# Altium footprint library lib.PcbLib: 40 footprints (part 3 of 3)
Each footprint in its own frame and in the unit in brackets; x right, y up, seen from the top. Pads: shape width x height; smd on the part's side, far side on the other; paste and mask are expansions set on the pad; w line width, h text height; cw(c..) or ccw(c..) is an arc to the next point about the centre after c.
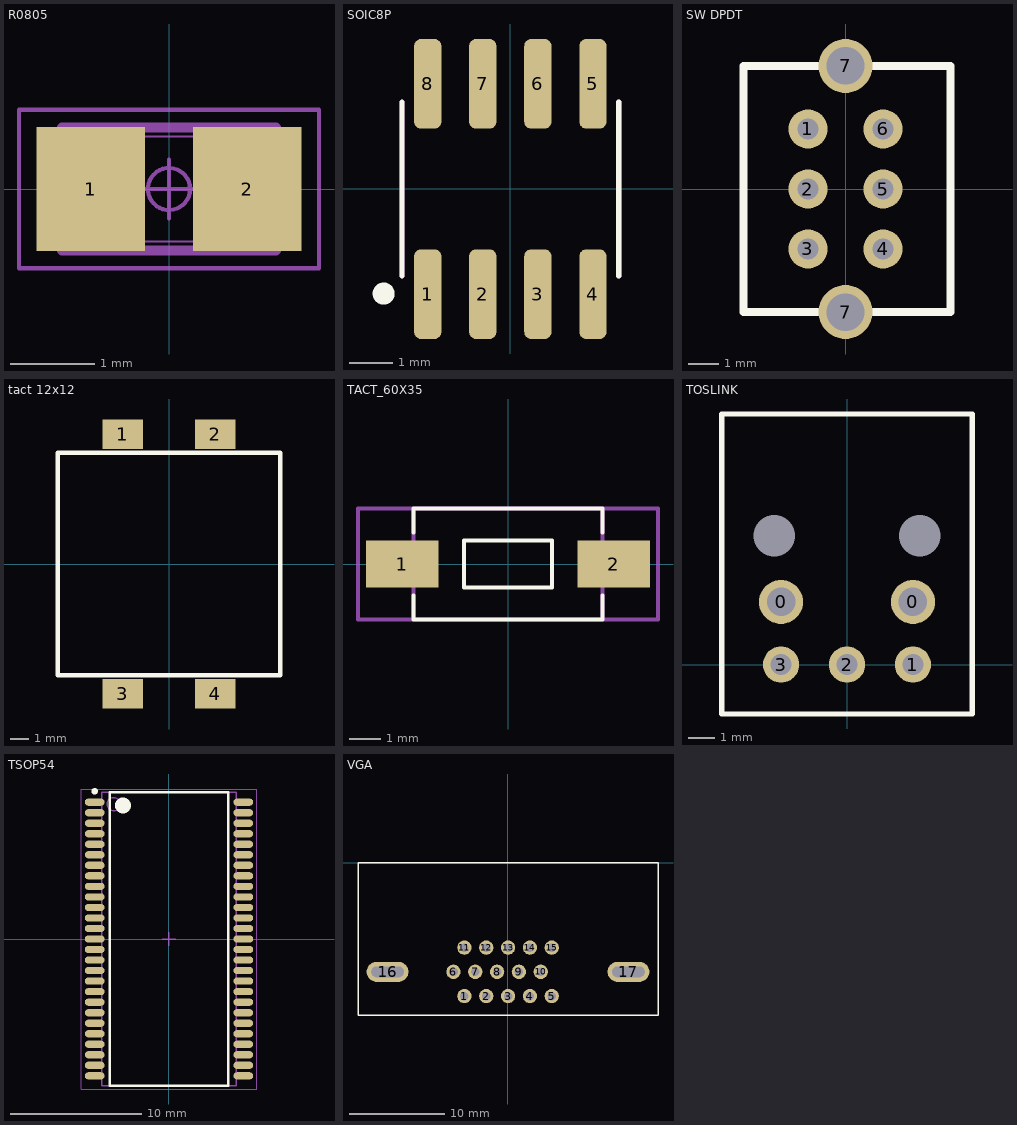
[diagram p2: the footprints below, top view; thin cyan lines are the x and y axes]

## R0805 [mm] "Resistor, Chip; 2.32 mm L X 1.25 mm W X 1.00 mm H body"
height 1
pads (2):
  rect 1.29x1.47 smd: 1(-0.93,0) 2(0.93,0)
Mechanical 11:
  lines w0.12: -1.27,-0.73 -1.27,0.73 1.27,0.73 1.27,-0.73 -1.27,-0.73
Mechanical 12:
  lines w0.025: -1.16,-0.625 -0.41,-0.625 -0.41,0.625 -1.16,0.625 ; -1.16,-0.625 -1.16,0.625 ; -1.16,-0.625 -1.16,0.625 ; -1.16,-0.625 1.16,-0.625 ; -1.16,0.625 1.16,0.625 ; 1.16,-0.625 1.16,0.625 ; 1.16,-0.625 0.41,-0.625 0.41,0.625 1.16,0.625 ; 1.16,-0.625 1.16,0.625
Mechanical 15:
  circle w0.05: c0,0 r0.25
  lines w0.05: -0.35,0 0.35,0 ; 0,-0.35 0,0.35 ; -1.78,-0.94 -1.78,0.94 1.78,0.94 1.78,-0.94 -1.78,-0.94
3D body "R0805.stp": height 0.42, standoff -0.03, extent -1.026,-0.625 0.974,0.625

## SOIC8P [mm] "Small Outline IC (SOIC), 1.27 mm pitch; 8 pin, 4.90 mm L X 3.90 mm W X 1.75 mm H body"
height 1.75
pads (8):
  rrect51% 0.63x2.07 smd: 1(-1.905,-2.425) 2(-0.635,-2.425) 3(0.635,-2.425) 4(1.905,-2.425) 5(1.905,2.425) 6(0.635,2.425) 7(-0.635,2.425) 8(-1.905,2.425)
Top Overlay:
  circle w0.254: c-2.921,-2.413 r0.127
  lines w0.12: -2.5,-2 -2.5,2 ; 2.5,-2 2.5,2
Mechanical 11:
  lines w0.12: -2.5,-2 -2.5,2 ; 2.5,-2 2.5,2
Mechanical 12:
  lines w0.025: -2.45,-1.95 -2.45,1.95 ; 2.45,-1.95 2.45,1.95 ; -2.095,-3 -2.095,-2.165 -1.715,-2.165 -1.715,-3 -2.095,-3 ; -2.095,2.165 -2.095,3 -1.715,3 -1.715,2.165 -2.095,2.165 ; -0.825,-3 -0.825,-2.165 -0.445,-2.165 -0.445,-3 -0.825,-3 ; -0.825,2.165 -0.825,3 -0.445,3 -0.445,2.165 -0.825,2.165 ; 0.445,-3 0.445,-2.165 0.825,-2.165 0.825,-3 0.445,-3 ; 0.445,2.165 0.445,3 0.825,3 0.825,2.165 0.445,2.165 ; 1.715,-3 1.715,-2.165 2.095,-2.165 2.095,-3 1.715,-3 ; 1.715,2.165 1.715,3 2.095,3 2.095,2.165 1.715,2.165
3D body "SOIC8P.STEP": height 1.75, standoff 0, extent -2.45,-3 2.45,3

## SW DPDT [mm]
pads (8):
  round 1.3 hole 0.7: 1(-1.25,2) 2(-1.25,0) 3(-1.25,-2) 4(1.25,-2) 5(1.25,0) 6(1.25,2)
  round 1.8 hole 1.25: 7(0,-4.1) 7(0,4.1)
Top Overlay:
  lines w0.254: -3.4,-4.1 -3.4,4.1 3.5,4.1 3.5,-4.1 -3.4,-4.1
3D body "dpdt.stp": height 4.7, standoff -2.6, extent -7.2,-4.25 3.4,4.25

## tact 12x12 [mm]
pads (4):
  rect 2.2x1.6 smd: 1(-2.5,7) 2(2.5,7) 3(-2.5,-7) 4(2.5,-7)
Top Overlay:
  lines w0.254: -6,-6 6,-6 6,6 -6,6 -6,-6
3D body "tact_1212b.stp": height 5.3, standoff 0, extent -6,-7.5 6,7.5

## TACT_60X35 [mm] "6.0*3.5mm vertical type, SMD, height 5.0mm, white actuator, 260gf, T&R"
height 5
pads (2):
  rect 2.3x1.5 smd: 1(-3.35,0) 2(3.35,0)
Top Overlay:
  lines w0.127: -3,-1 -3,-1.75 ; 3,1 3,1.75 ; -3,-1.75 -3,-1.75 ; -3,-1.75 3,-1.75 3,-1 ; -3,1 -3,1 ; -3,1 -3,1.75 3,1.75 ; 3,-1 3,-1 ; 3,1.75 3,1.75 ; -1.4,-0.75 1.4,-0.75 1.4,0.75 -1.4,0.75 -1.4,-0.75
Mechanical 13:
  lines w0.127: -3,-1.75 -3,1.75 3,1.75 3,-1.75 -3,-1.75
Mechanical 15:
  lines w0.127: -4.75,-1.75 4.75,-1.75 4.75,1.75 -4.75,1.75 -4.75,-1.75
3D body "tact_60x35.stp": height 5, standoff 0, extent -3.8,-1.75 3.8,1.75

## TOSLINK [mm]
pads (7):
  round 1.7 hole 1.1: 0(-2.54,2.413) 0(2.54,2.413)
  round 1.4 hole 0.8: 1(2.54,0) 2(0,0) 3(-2.54,0)
  round 1 hole 1.6 unplated: ""(-2.794,4.953) ""(2.794,4.953)
Top Overlay:
  lines w0.2: -4.826,-1.905 4.826,-1.905 4.826,9.652 -4.826,9.652 -4.826,-1.905
3D body "User Library-TORX147PL(f,t).step": height 10.05, standoff -3.55, extent -4.8,-2.45 4.9,11.05

## TSOP54 [mm] "SOP, 54-Leads, Body 22.3x10.2mm, Pitch 0.8mm, IPC Medium Density"
height 1.2
pads (54):
  oval 1.5x0.55 smd: 1(-5.65,10.4) 2(-5.65,9.6) 3(-5.65,8.8) 4(-5.65,8) 5(-5.65,7.2) 6(-5.65,6.4) 7(-5.65,5.6) 8(-5.65,4.8) 9(-5.65,4) 10(-5.65,3.2) 11(-5.65,2.4) 12(-5.65,1.6) 13(-5.65,0.8) 14(-5.65,0) 15(-5.65,-0.8) 16(-5.65,-1.6) 17(-5.65,-2.4) 18(-5.65,-3.2) 19(-5.65,-4) 20(-5.65,-4.8) 21(-5.65,-5.6) 22(-5.65,-6.4) 23(-5.65,-7.2) 24(-5.65,-8) 25(-5.65,-8.8) 26(-5.65,-9.6) 27(-5.65,-10.4) 28(5.65,-10.4) 29(5.65,-9.6) 30(5.65,-8.8) 31(5.65,-8) 32(5.65,-7.2) 33(5.65,-6.4) 34(5.65,-5.6) 35(5.65,-4.8) 36(5.65,-4) 37(5.65,-3.2) 38(5.65,-2.4) 39(5.65,-1.6) 40(5.65,-0.8) 41(5.65,0) 42(5.65,0.8) 43(5.65,1.6) 44(5.65,2.4) 45(5.65,3.2) 46(5.65,4) 47(5.65,4.8) 48(5.65,5.6) 49(5.65,6.4) 50(5.65,7.2) 51(5.65,8) 52(5.65,8.8) 53(5.65,9.6) 54(5.65,10.4)
Top Overlay:
  circle w0.6: c-3.5,10.15 r0.3
  circle w0.25: c-5.65,11.225 r0.125
  lines w0.2: -4.5,-11.15 4.5,-11.15 4.5,11.15 -4.5,11.15 -4.5,-11.15
Mechanical 13:
  circle w0.1: c-4.2,10.25 r0.5
  lines w0.1: -5.1,-11.15 5.1,-11.15 5.1,11.15 -5.1,11.15 -5.1,-11.15
Mechanical 15:
  lines w0.05: -6.65,-11.4 6.65,-11.4 6.65,11.4 -6.65,11.4 -6.65,-11.4
  lines w0.1: -0.5,0 0.5,0 ; 0,-0.5 0,0.5
3D body "TSOP54.stp": height 1, standoff -0.1, extent -5.88,-11.25 5.88,11.267

## VGA [mm]
pads (17):
  round 1.5 hole 0.9: 1(-4.545,-13.97) 2(-2.255,-13.97) 3(0.035,-13.97) 4(2.325,-13.97) 5(4.615,-13.97) 6(-5.688,-11.43) 7(-3.402,-11.43) 8(-1.116,-11.43) 9(1.17,-11.43) 10(3.456,-11.43) 11(-4.545,-8.89) 12(-2.255,-8.89) 13(0.035,-8.89) 14(2.325,-8.89) 15(4.615,-8.89)
  oval 4.4x2.1 hole 1.1 slot 3.4 at 0 deg: 16(-12.597,-11.43) 17(12.651,-11.43)
Top Overlay:
  lines w0.152: -8.38,0 8.434,0 ; -15.696,-15.977 15.75,-15.977 15.75,0 -15.696,0 -15.696,-15.977
3D body "db15f2.stp": height 4.26, standoff -13, extent -15.484,-15.197 15.421,6.771